# Altium integrated library LTC2644CMS-L12_PBF.IntLib: 1 symbol
Pins are listed as number, name and electrical type; pins without a type are passive.

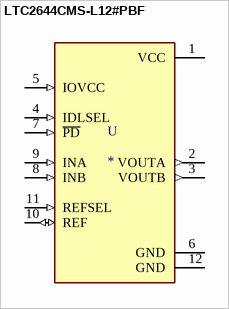
[diagram p0: symbol LTC2644CMS-L12#PBF]

## LTC2644CMS-L12#PBF
designator U
DAC 2-CH 12-bit 12-Pin MSOP Tube; MF: Analog Devices; MP: LTC2644CMS-L12#PBF; SnapEDA_Link: https://www.snapeda.com/parts/LTC2644CMS-L12%23PBF/Analog%20Devices/view-part/4332249/?ref=snap; Package: MSOP-12 Analog Devices; Price: None; Availability: Unavailable; Value: *
footprint SOP65P490X110-12N_LTC2644CMS-L12#PBF
pins: 1 VCC (power), 2 VOUTA (out), 3 VOUTB (out), 4 IDLSEL (in), 5 IOVCC (in), 6 GND (power), 7 ~{PD} (in), 8 INB (in), 9 INA (in), 10 REF (io), 11 REFSEL (in), 12 GND (power)